# Altium footprint library DIOM5436X244N.PcbLib: 1 footprints
Each footprint in its own frame and in the unit in brackets; x right, y up, seen from the top. Pads: shape width x height; smd on the part's side, far side on the other; paste and mask are expansions set on the pad; w line width, h text height; cw(c..) or ccw(c..) is an arc to the next point about the centre after c.
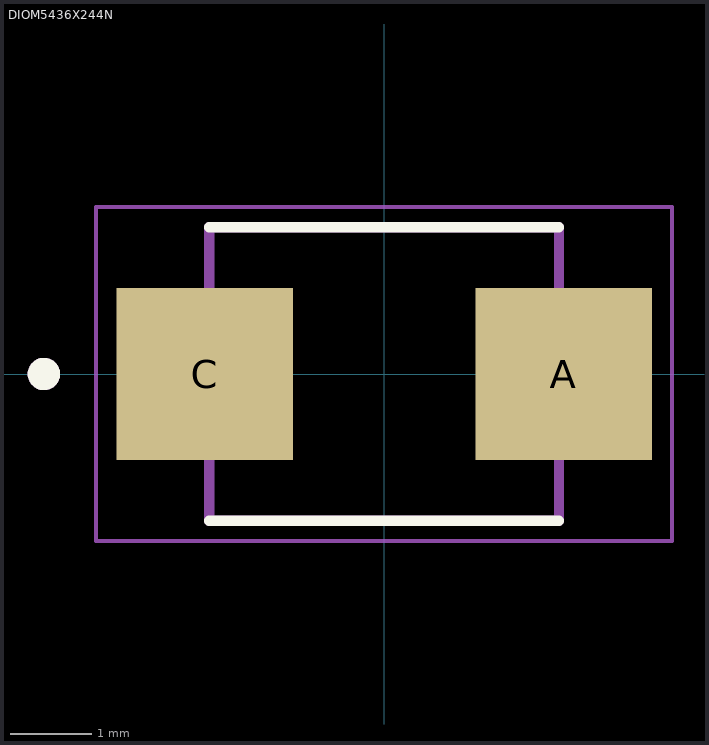
[diagram p0: the footprint, top view; thin cyan lines are the x and y axes]

## DIOM5436X244N [mm]
pads (2):
  rect 2.18x2.12 smd: A(2.215,0) C(-2.215,0)
Top Overlay:
  circle w0.2: c-4.2,0 r0.1
  lines w0.127: -2.157,-1.81 2.157,-1.81 ; -2.157,1.81 2.157,1.81
Mechanical 13:
  circle w0.2: c-4.2,0 r0.1
  lines w0.127: -2.157,-1.81 -2.157,1.81 2.157,1.81 2.157,-1.81 -2.157,-1.81
Mechanical 15:
  lines w0.05: -3.555,-2.06 -3.555,2.06 3.555,2.06 3.555,-2.06 -3.555,-2.06
3D body "SMBJ28A.STEP": height 2.6, standoff -0.01, extent -2.606,-1.842 2.794,1.778